# Altium footprint library DFN.PcbLib: 8 footprints
Each footprint in its own frame and in the unit in brackets; x right, y up, seen from the top. Pads: shape width x height; smd on the part's side, far side on the other; paste and mask are expansions set on the pad; w line width, h text height; cw(c..) or ccw(c..) is an arc to the next point about the centre after c.
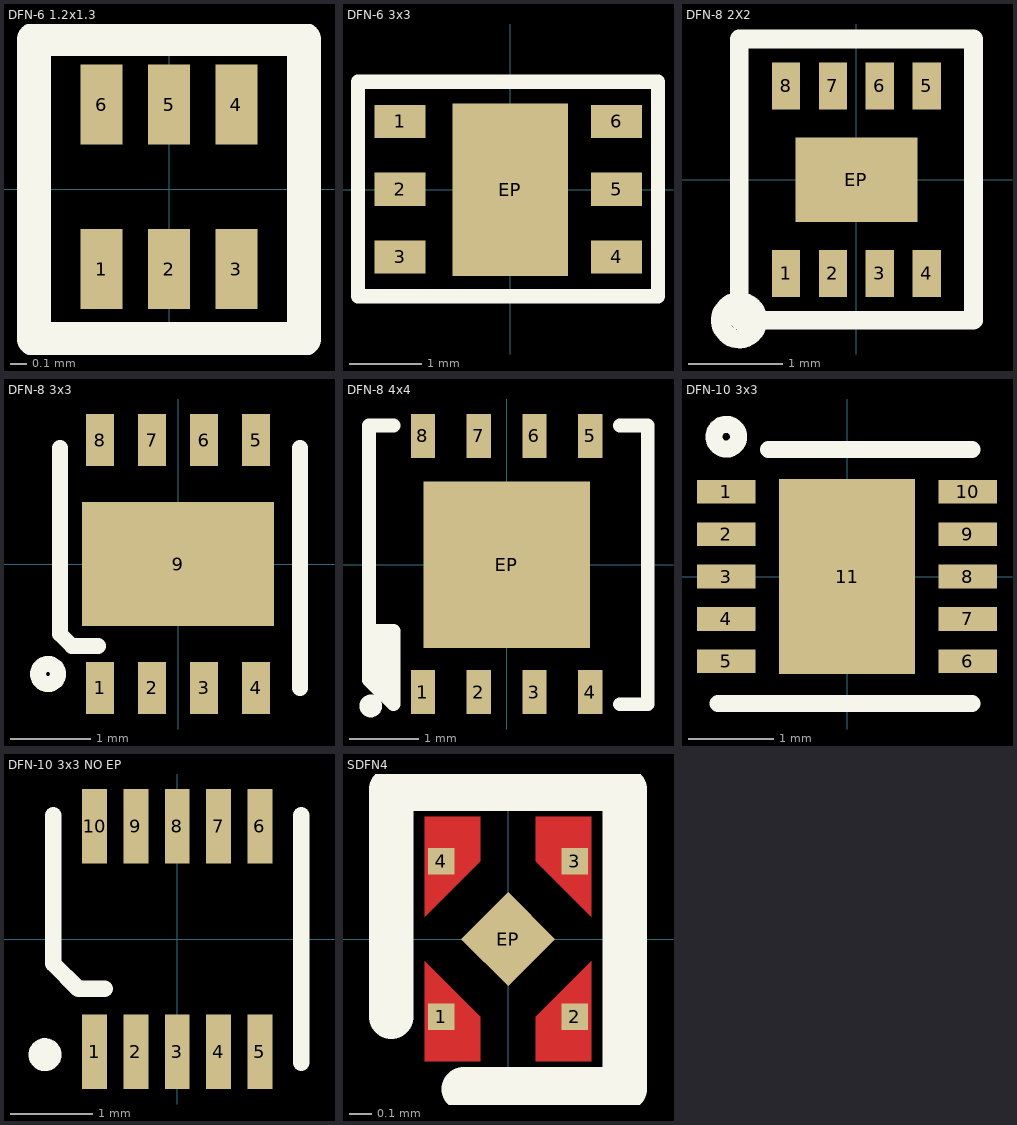
[diagram p0: the footprints below, top view; thin cyan lines are the x and y axes]

## DFN-6 1.2x1.3 [mm]
pads (6):
  rect 0.25x0.475 smd paste+0 mask+0: 1(-0.4,-0.475) 2(0,-0.475) 3(0.4,-0.475) 4(0.4,0.5) 5(0,0.5) 6(-0.4,0.5)
Top Overlay:
  lines w0.2: -0.8,-0.889 -0.8,0.889 0.8,0.889 0.8,-0.889 -0.8,-0.889
3D body: height 0.38, standoff 0, extent -0.65,-0.6 0.65,0.6

## DFN-6 3x3 [mm]
pads (7):
  rect 0.71x0.46 smd: 1(-1.525,0.95) 2(-1.525,0.01) 3(-1.525,-0.93) 4(1.475,-0.93) 5(1.475,0.01) 6(1.475,0.95)
  rect 1.6x2.39 smd: EP(0,0)
Top Overlay:
  lines w0.2: -2.108,-1.475 2.05,-1.475 2.05,1.5 -2.108,1.5 -2.108,-1.475
3D body "User Library-dfn6_3x3_rm0_95.step": height 0.78, standoff -0.02, extent -1.551,-1.489 1.549,1.511

## DFN-8 2X2 [mm]
pads (9):
  rect 0.3x0.5 smd: 1(-0.75,-1) 2(-0.25,-1) 3(0.25,-1) 4(0.75,-1) 5(0.75,1) 6(0.25,1) 7(-0.25,1) 8(-0.75,1)
  rect 1.3x0.9 smd: EP(0,0)
Top Overlay:
  circle w0.2: c-1.25,-1.5 r0.2
  lines w0.2: -1.25,-1.5 1.25,-1.5 1.25,1.5 -1.25,1.5 -1.25,-1.5
3D body "User Library-DFN 8.step": height 0.75, standoff -0.05, extent -1,-1.001 1,1.001

## DFN-8 3x3 [mm]
pads (9):
  rect 0.35x0.65 smd paste+0: 1(-0.975,-1.55) 2(-0.325,-1.55) 3(0.325,-1.55) 4(0.975,-1.55) 5(0.975,1.55) 6(0.325,1.55) 7(-0.325,1.55) 8(-0.975,1.55)
  rect 2.4x1.55 smd paste+0: 9(0,0)
Top Overlay:
  circle w0.2: c-1.625,-1.375 r0.125
  lines w0.2: -1.475,1.45 -1.475,-0.875 -1.325,-1.025 -1,-1.025 ; 1.525,-1.55 1.525,1.45
3D body "User Library-DFN8_3x3mm__65mm.STEP": height 0.8, standoff 0, extent -1.475,-1.57 1.525,1.45

## DFN-8 4x4 [mm]
pads (9):
  rect 0.35x0.63 smd: 1(-1.2,-1.825) 2(-0.4,-1.825) 3(0.4,-1.825) 4(1.2,-1.825) 5(1.2,1.85) 6(0.4,1.85) 7(-0.4,1.85) 8(-1.2,1.85)
  rect 2.39x2.39 smd: EP(0,0)
Top Overlay:
  circle w0.254: c-1.95,-2.025 r0.035
  region: -1.625,-2 -1.625,-0.95 -1.975,-0.95 -1.975,-1.65
  lines w0.2: -1.975,-0.95 -1.625,-0.95 -1.625,-2 ; -1.625,2 -1.975,2 -1.975,-1.65 -1.625,-2 ; 1.625,2 2.025,2 2.025,-2 1.625,-2 ; -1.625,-2 -1.625,-2 ; 1.625,-2 1.625,-2
3D body "User Library-DFN8 Body 4x4 Pitch 0_8mm.STEP": height 0.95, standoff -0.05, extent -2,-1.975 2,2.125

## DFN-10 3x3 [mm]
pads (11):
  rect 0.69x0.28 smd: 1(-1.425,1) 2(-1.425,0.5) 3(-1.425,0) 4(-1.425,-0.5) 5(-1.425,-1) 6(1.425,-1) 7(1.425,-0.5) 8(1.425,0) 9(1.425,0.5) 10(1.425,1)
  rect 1.6x2.3 smd: 11(0,0)
Top Overlay:
  circle w0.2: c-1.425,1.65 r0.146
  lines w0.2: -1.525,-1.5 1.475,-1.5 ; -0.925,1.5 1.475,1.5
3D body "User Library-DFN-10.STEP": height 0.8, standoff 0, extent -1.525,-1.5 1.475,1.5

## DFN-10 3x3 NO EP [mm]
pads (10):
  rect 0.3x0.9 smd: 1(-1,-1.365) 2(-0.5,-1.365) 3(0,-1.365) 4(0.5,-1.365) 5(1,-1.365) 6(1,1.365) 7(0.5,1.365) 8(0,1.365) 9(-0.5,1.365) 10(-1,1.365)
Top Overlay:
  circle w0.2: c-1.6,-1.4 r0.1
  lines w0.2: -1.5,1.5 -1.5,-0.3 -1.2,-0.6 -0.875,-0.6 ; 1.5,-1.5 1.5,1.5
3D body "User Library-DFN-10.STEP": height 0.8, standoff 0, extent -1.5,-1.5 1.5,1.5

## SDFN4 [mm]
pads (5):
  rect 0.12x0.12 smd: 1(-0.3,-0.35) 2(0.3,-0.35) 3(0.3,0.35) 4(-0.3,0.35)
  rect 0.3x0.3 smd rot 45 mask+0: EP(0,0)
Top Layer:
  region: 0.375,-0.1 0.375,-0.55 0.125,-0.55 0.125,-0.35
  region: 0.375,0.1 0.375,0.55 0.125,0.55 0.125,0.35
  region: -0.375,0.1 -0.375,0.55 -0.125,0.55 -0.125,0.35
  region: -0.375,-0.1 -0.375,-0.55 -0.125,-0.55 -0.125,-0.35
Top Overlay:
  lines w0.2: -0.525,-0.35 -0.525,0.675 0.525,0.675 0.525,-0.675 -0.2,-0.675
Top Solder:
  rectangle: -0.5,-0.5 0.5,0.5
3D body: height 0.38, standoff 0, extent -0.4,-0.4 0.4,0.4